# EAGLE library part AVRISP (library dubec)
AVR ISP header
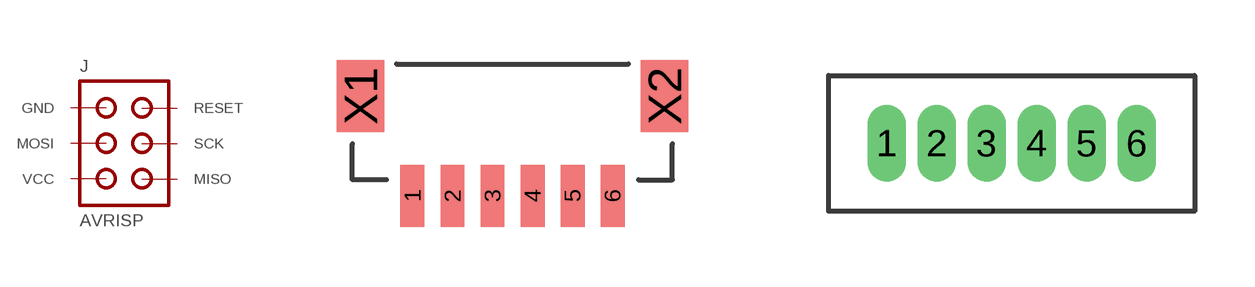
[diagram p8: symbol with the pads of JST-SH_6-TOP; footprints JST-SH_6-TOP, DF13-6P]

Designator prefix J

## AVRISPJST-SH  [JST-SH_6-TOP]
1  MISO  out
2  VCC  pwr
3  SCK  in
4  MOSI  in
5  RESET  in
6  GND  pwr

## AVRISPHIROSE  [DF13-6P]
Pads as for JST-SH_6-TOP

## AVRISPH3X2 (DIGIKEY_PART_#: H1809-ND; MANUFACTURER: Hirose Electric Co Ltd; MFG_PART_#: A3C-6P-2DSA; RELATED: H2002-ND, H9999-ND; TYPE: thru-hole)  [H2MM-3X2]
Pads as for JST-SH_6-TOP

## AVRISP1.27MM (DIGIKEY_PART_#: 609-3710-ND; MANUFACTURER: FCI; MFG_PART_#: 20021111-00006T4LF)  [H1.27MM-3X2]
P$1  MISO  out
P$2  VCC  pwr
P$3  SCK  in
P$4  MOSI  in
P$5  RESET  in
P$6  GND  pwr

## AVRISPAVX (DIGIKEY_PART_#: 478-5495-1-ND; MANUFACTURER: AVX Corporation; MFG_PART_#: 009258008004063)  [AVX9258-PCB]
2  MISO  out
4  SCK  in
5  MOSI  in
6  RESET  in
P1  VCC  pwr
P2  GND  pwr

## AVRISPAVXC  [AVX9258-8C]
Pads as for JST-SH_6-TOP

## AVRISPWR (DIGIKEY_PART_#: 732-5394-ND; EURO: 0.84; MANUFACTURER: Wurth Electronics Inc; MFG_PART_#: 61200621621)  [WR-BHD-3X2]
Pads as for JST-SH_6-TOP

## AVRISP0.1"  [2X03]
Pads as for JST-SH_6-TOP

## Footprint JST-SH_6-TOP (pad centres in mm)
smd 0.6 x 1.55: 1 -2.5,-1.3; 2 -1.5,-1.3; 3 -0.5,-1.3; 4 0.5,-1.3; 5 1.5,-1.3; 6 2.5,-1.3
smd 1.2 x 1.8: X1 -3.8,1.2; X2 3.8,1.2

## Footprint DF13-6P (pad centres in mm)
drill 0.45 long: 1 -3.125,0; 2 -1.875,0; 3 -0.625,0; 4 0.625,0; 5 1.875,0; 6 3.125,0

## Footprint H2MM-3X2 (pad centres in mm)
drill 0.8 pad 1.25 square: 1 -2,-1
drill 0.8 pad 1.25: 2 -2,1; 3 0,-1; 4 0,1; 5 2,-1; 6 2,1

## Footprint H1.27MM-3X2 (pad centres in mm)
drill 0.6 pad 1 square: P$1 -1.27,-0.635
drill 0.6 pad 1: P$2 -1.27,0.635; P$3 0,-0.635; P$4 0,0.635; P$5 1.27,-0.635; P$6 1.27,0.635

## Footprint AVX9258-PCB (pad centres in mm)
smd 0.6 x 1.1: 1 -2.5,0; 2 -1.5,0; 3 -0.5,0; 4 0.5,0; 5 1.5,0; 6 2.5,0
smd 0.6 x 1.3: P1 -3.5,0.1; P2 3.5,0.1

## Footprint AVX9258-8C (pad centres in mm)
smd 0.7 x 0.7: 1 3.55,-2.85; 8 -3.55,-2.85
smd 0.6 x 0.7: 2 2.5,-2.85; 3 1.5,-2.85; 4 0.5,-2.85; 5 -0.5,-2.85; 6 -1.5,-2.85; 7 -2.5,-2.85
hole 1.2 at -4.675,0
hole 1.2 at 4.675,0

## Footprint WR-BHD-3X2 (pad centres in mm)
drill 1 pad 1.6 offset: 1 1.27,-2.54; 2 -1.27,-2.54; 3 1.27,0; 4 -1.27,0; 5 1.27,2.54; 6 -1.27,2.54

## Footprint 2X03 (pad centres in mm)
drill 1.016 square: 1 -2.54,-1.27
drill 1.016: 2 -2.54,1.27; 3 0,-1.27; 4 0,1.27; 5 2.54,-1.27; 6 2.54,1.27